# Altium schematic symbol library Resistor.SchLib: 3 symbols
Pins are listed as number, name and electrical type; pins without a type are passive.

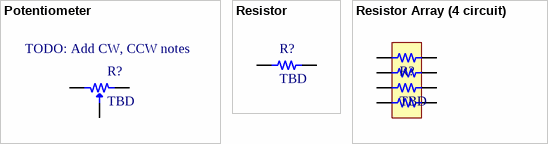
[diagram p0: symbols Potentiometer to Resistor Array (4 circuit)]

## Potentiometer
designator R?, comment TBD
Potentiometer; Value: TBD
pins: 1, 2, 3
text: TODO: Add CW, CCW notes

## Resistor
designator R?, comment TBD
Resistor; Value: TBD
pins: 1, 2

## Resistor Array (4 circuit)
designator R?, comment TBD
Resistor Array; Value: TBD
pins: 1, 2, 3, 4, 5, 6, 7, 8